# Altium schematic symbol library uw-madison-parts.SchLib: 28 symbols
Pins are listed as number, name and electrical type; pins without a type are passive.

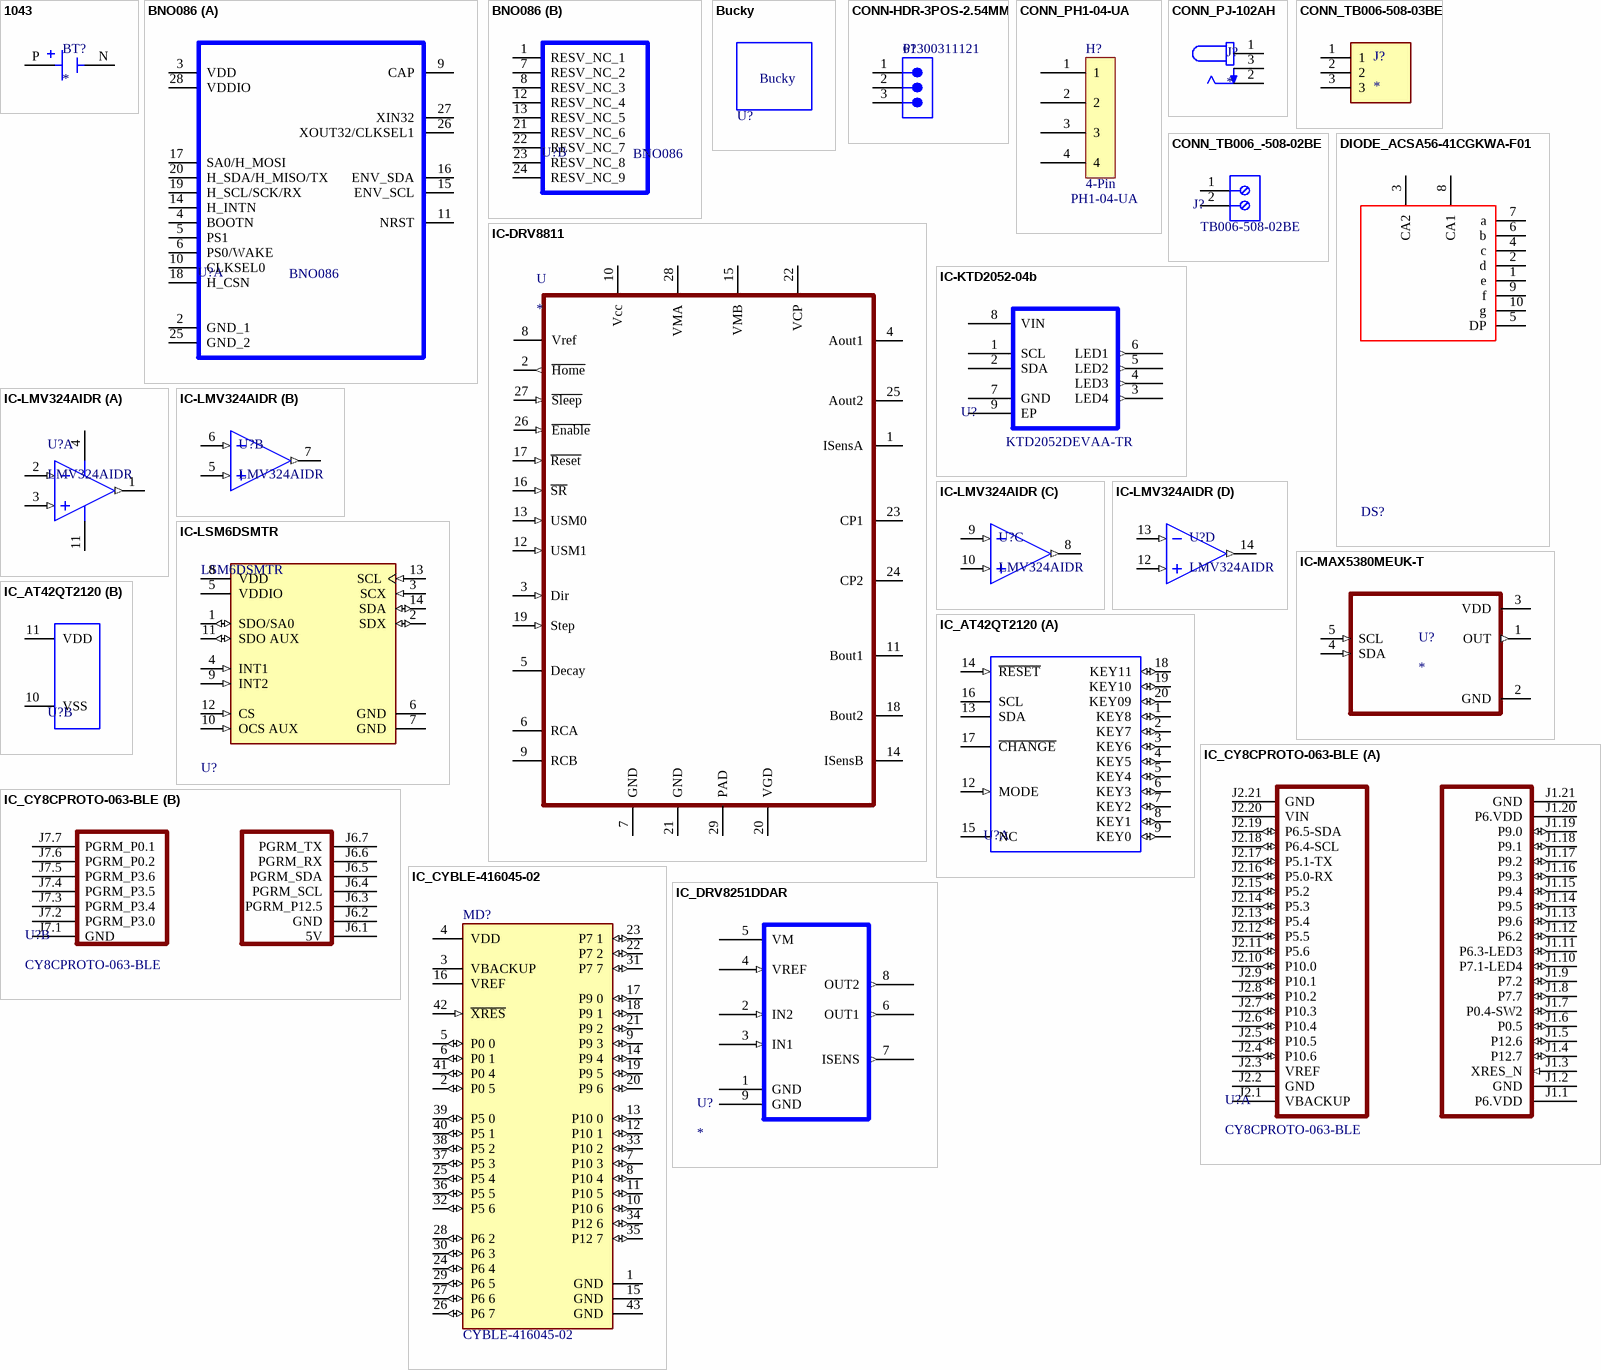
[diagram p0: symbols 1043 to IC_DRV8251DDAR]

## 1043
designator BT?
Manufacturer: Keystone Electronics; MP: 1043; Price: None; Availability: Unavailable; Value: *; Package: None; Supplier: Digikey; Supplier Part Number: 36-1043-ND; Manufacturer Part Number: 1043; RoHS: Yes; Category: Batteries and Accessories; Stock: 4625; Pricing: 1=3.38, 25=2.604, 100=2.328, 250=2.16176, 500=2.04398, 1000=1.9326, 2500=1.79464, 5000=1.69686 (USD); ComponentLink1URL: https://datasheet.ciiva.com/4/1043-4710.pdf?src-supplier=Digikey; ComponentLink1Description: https://datasheet.ciiva.com/4/1043-4710.pdf?src-supplier=Digikey; ComponentLink2URL: https://datasheet.ciiva.com/3353/1043-eng-tds-3353208.pdf?src-supplier=Distrelec; ComponentLink2Description: https://datasheet.ciiva.com/3353/1043-eng-tds-3353208.pdf?src-supplier=Distrelec; ComponentLink3URL: https://datasheet.ciiva.com/41803/1043-41803215.pdf?src-supplier=Digikey; ComponentLink3Description: https://datasheet.ciiva.com/41803/1043-41803215.pdf?src-supplier=Digikey; ComponentLink4URL: https://datasheet.ciiva.com/4642/1043-4642493.pdf?src-supplier=Mouser; ComponentLink4Description: https://datasheet.ciiva.com/4642/1043-4642493.pdf?src-supplier=Mouser
footprint BAT_1043
pins: N NEG, P POS

## BNO086
designator U?
Accelerometer, Gyroscope, Magnetometer, Temperature, 9 Axis Sensor IC, SPI Output; Manufacturer_Name: CEVA; Geometry.Height: 1.18mm; Mouser Part Number: 526-BNO086; Mouser Price/Stock: https://www.mouser.co.uk/ProductDetail/CEVA/BNO086?qs=ulEaXIWI0c%2FqTo1scjodAw%3D%3D; Manufacturer_Part_Number: BNO086; Datasheet Link: *
footprint BNO086
part A pins: 2 GND_1, 3 VDD, 4 BOOTN, 5 PS1, 6 PS0/WAKE, 9 CAP, 10 CLKSEL0, 11 NRST, 14 H_INTN, 15 ENV_SCL, 16 ENV_SDA, 17 SA0/H_MOSI, 18 H_CSN, 19 H_SCL/SCK/RX, 20 H_SDA/H_MISO/TX, 25 GND_2, 26 XOUT32/CLKSEL1, 27 XIN32, 28 VDDIO
part B pins: 1 RESV_NC_1, 7 RESV_NC_2, 8 RESV_NC_3, 12 RESV_NC_4, 13 RESV_NC_5, 21 RESV_NC_6, 22 RESV_NC_7, 23 RESV_NC_8, 24 RESV_NC_9

## Bucky
designator U?  (value not drawn)  (no BOM)
Bucky Badger Image; Manufacturer Part Number: UW Bucky
footprint Bucky

## CONN-HDR-3POS-2.54MM
designator P?, comment 61300311121
CONN HEADER VERT 3POS 2.54MM; NexarPartId: 32855521; Current Rating: 3A; Voltage Rating: 250V; Number of Positions: 3; Contact Resistance: 20mΩ; Connector Type: Male Pin; Gender: Male; REACH SVHC: Unknown; Packaging: Bulk; Contact Material: Copper; Pitch: 2.54mm; Min Operating Temperature: -40°C; Number of Rows: 1; Orientation: Vertical; RoHS: Compliant; Contact Plating: Gold; Max Operating Temperature: 105°C; Mount: Through Hole; Height: 8.94mm; Operating Supply Voltage: 250V; Number of Pins: 3; Contact Mating Length: 5.9944mm; Number of Contacts: 3; Color: Black; Lead Free: Lead Free; Lead Pitch: 2.54mm; Termination: Solder
footprint CONN-HDR-3POS (CONN HEADER VERT 3POS 2.54MM)
pins: 1, 2, 3

## CONN_PH1-04-UA
designator H?, comment 4-Pin  Manufacturer Part Number: PH1-04-UA
Conn Unshrouded Header HDR 4 POS 2.54mm Solder ST Thru-Hole Bag; Manufacturer: Adam Equipment; Number of Positions: 4; Value: 4P-Header; Supplier 1: Digi-Key; Supplier Part Number 1: 2057-PH1-04-UA-ND; RoHS: Yes; Category: Connectors; Stock 1: 21149; Pricing 1: 1=0.1, 10=0.067, 100=0.0498, 500=0.0412, 1000=0.03606, 5000=0.03091, 10000=0.03005 (USD); Termination: Through Hole; Pitch: 2.54mm; Lead Free: Lead Free; ComponentLink1URL: http://www.adam-tech.com/catalog/2010/page_292-295.pdf?src-supplier=Future+Electronics; ComponentLink1Description: http://www.adam-tech.com/catalog/2010/page_292-295.pdf?src-supplier=Future+Electronics; ComponentLink2URL: https://datasheet.octopart.com/PH1-04-UA-Adam-Tech-datasheet-12339966.pdf?src-supplier=Future+Electronics; ComponentLink2Description: https://datasheet.octopart.com/PH1-04-UA-Adam-Tech-datasheet-12339966.pdf?src-supplier=Future+Electronics; Supplier: Digikey; Supplier Part Number: 2057-PH1-04-UA-ND; Stock: 19829; Pricing: 1=0.1, 10=0.048, 100=0.0391, 500=0.03386, 1000=0.03184, 5000=0.0276, 10000=0.02595 (USD)
footprint PHOENIX4X0.2LGPINSRTL (4 Pin Right Angle Male Rect Phoenix)
footprint 4X1HDR (4X1 Header 0.1LS TH)
pins: 1 "Pin 1", 2 "Pin 2", 3 "Pin 3", 4 "Pin 4"

## CONN_PJ-102AH
designator J?
2.0 x 6.5 mm, 5.0 A, Horizontal, Through Hole, Tapered Pins, Dc Power Jack Connector; Manufacturer: CUI; MF: {'manufacturer': u'CUI Devices'}; MP: PJ-102AH; Number of Conductors: 2; Shielding: Unshielded; Package: None; Price: None; Value: *; Availability: Unavailable; Supplier: Digikey; Supplier Part Number: CP-102AH-ND; Manufacturer Part Number: PJ-102AH; RoHS: Yes; Category: Uncategorized; Stock: 76168; Pricing: 1=0.700000, 10=0.590000, 25=0.566000, 40=0.553750, 200=0.529750, 400=0.481600, 600=0.433430, 1000=0.385280, 2400=0.349160 (USD); Orientation: Horizontal; Packaging: Bulk; Termination: Through Hole; Connector Type: Jack; Diameter: 2.1mm; Lead Free: Lead Free; RoHS Compliant: Yes; ComponentLink1URL: http://www.mouser.com/ds/2/670/PJ-102AH-524179.pdf?src-supplier=Mouser; ComponentLink1Description: http://www.mouser.com/ds/2/670/PJ-102AH-524179.pdf?src-supplier=Mouser; ComponentLink2URL: https://www.cui.com/product/resource/digikeypdf/pj-102ah.pdf?src-supplier=Digikey; ComponentLink2Description: https://www.cui.com/product/resource/digikeypdf/pj-102ah.pdf?src-supplier=Digikey; ComponentLink3URL: http://www.cui.com/Product/Resource/FuturePDF/PJ-102AH.pdf?src-supplier=Future+Electronics; ComponentLink3Description: http://www.cui.com/Product/Resource/FuturePDF/PJ-102AH.pdf?src-supplier=Future+Electronics
footprint CUI_PJ-102AH
pins: 1, 2, 3

## CONN_TB006-508-03BE
designator J?
2~24 Poles, Screw Type, Horizontal, 5.08 Pitch, 26~14 (AWG), Terminal Block Connector; MF: CUI Devices; MP: TB006-508-03BE; Price: None; CUI_purchase_URL: https://www.cuidevices.com/product/interconnect/connectors/terminal-blocks/tb006-508-series?utm_source=snapeda.com&utm_medium=referral&utm_campaign=snapedaBOM; Purchase-URL: https://pricing.snapeda.com/search/part/TB006-508-03BE/?ref=eda; Value: *; Package: None; SnapEDA_Link: https://www.snapeda.com/parts/TB006-508-03BE/CUI+Devices/view-part/?ref=snap; Availability: In Stock; Check_prices: https://www.snapeda.com/parts/TB006-508-03BE/CUI+Devices/view-part/?ref=eda
footprint CUI_TB006-508-03BE
pins: 1, 2, 3

## CONN_TB006_-508-02BE
designator J?  Manufacturer Part Number: TB006-508-02BE  (hidden comment: *)
2~24 Poles, Screw Type, Horizontal, 5.08 Pitch, 26~14 (AWG), Terminal Block Connector; MF: CUI Devices; MP: TB006 -508-02BE; CUI_purchase_URL: https://www.cuidevices.com/product/interconnect/connectors/terminal-blocks/tb006-508-series?utm_source=snapeda.com&utm_medium=referral&utm_campaign=snapedaBOM; Value: *; Check_prices: https://www.snapeda.com/parts/TB006%20-508-02BE/CUI+Devices/view-part/?ref=eda; SnapEDA_Link: https://www.snapeda.com/parts/TB006%20-508-02BE/CUI+Devices/view-part/?ref=snap; Availability: In Stock; Package: None; Purchase-URL: https://pricing.snapeda.com/search/part/TB006 -508-02BE/?ref=eda; Price: None; Supplier: Digikey; Supplier Part Number: 102-6191-ND; Manufacturer: CUI Devices; RoHS: Yes; Category: Terminal Blocks; Stock: 47249; Pricing: 1=0.73, 10=0.402, 25=0.3, 50=0.2676, 100=0.2623, 250=0.23084, 500=0.20984, 1000=0.18886, 5000=0.14164 (USD)
footprint CUI_TB006 -508-02BE
pins: 1, 2

## DIODE_ACSA56-41CGKWA-F01
designator DS?, comment ACSA56-41CGKWA-F01  (value not drawn)
DISPLAY 7SEG 0.56" SGL GRN 10SMD; Manufacturer: Kingbright; Color: Green; Power Consumption: 75mW; Number of Characters: 1; Forward Current: 30mA; Forward Voltage: 2.1V; Wavelength: 570nm; Test Current: 20mA; Luminous Intensity: 25mcd; Display Type: Segment; Supplier: Digikey; Supplier Part Number: 754-1033-1-ND; Manufacturer Part Number: ACSA56-41CGKWA-F01; RoHS: Yes; Category: LEDs; Stock: 24017; Pricing: 1=3.02, 10=2.138, 100=1.7511 (USD); Case/Package: SMD/SMT; Min Operating Temperature: -40°C; Max Operating Temperature: 85°C; Package Quantity: 400; Max Power Dissipation: 75mW; Illumination Color: Green; Packaging: Cut Tape; Operating Supply Voltage: 2.1V; Series: -; RoHS Compliant: Yes; Lead Free: Lead Free; ComponentLink1URL: https://datasheet.ciiva.com/2103/acsa56-41cgkwa-f01-2103794.pdf?src-supplier=Digikey; ComponentLink1Description: https://datasheet.ciiva.com/2103/acsa56-41cgkwa-f01-2103794.pdf?src-supplier=Digikey; ComponentLink2URL: https://datasheet.ciiva.com/16287/acsa56-41cgkwa-f01-16287523.pdf?src-supplier=Future+Electronics; ComponentLink2Description: https://datasheet.ciiva.com/16287/acsa56-41cgkwa-f01-16287523.pdf?src-supplier=Future+Electronics; ComponentLink3URL: https://datasheet.ciiva.com/4421/acsa56-41cgkwa-f01-17964-4421697.pdf?src-supplier=Mouser; ComponentLink3Description: https://datasheet.ciiva.com/4421/acsa56-41cgkwa-f01-17964-4421697.pdf?src-supplier=Mouser; ComponentLink4URL: https://datasheet.ciiva.com/2103/acsa56-41cgkwa-f01-2103795.pdf?src-supplier=Digikey; ComponentLink4Description: https://datasheet.ciiva.com/2103/acsa56-41cgkwa-f01-2103795.pdf?src-supplier=Digikey; ComponentLink5URL: https://datasheet.ciiva.com/2103/acsa56-41cgkwa-f01-2103796.pdf?src-supplier=Digikey; ComponentLink5Description: https://datasheet.ciiva.com/2103/acsa56-41cgkwa-f01-2103796.pdf?src-supplier=Digikey
footprint ACSA56-41CGKWA-F01
pins: 1 e, 2 d, 3 CA2, 4 c, 5 DP, 6 b, 7 a, 8 CA1, 9 f, 10 g

## IC-DRV8811
designator U
DRV8811 1.9A Bipolar Stepper Mot; Manufacturer: Texas Instruments; Manufacturer Part Number: DRV8811PWP; Min Supply Voltage: 8V; Max Supply Voltage: 38V; Output Current: 2.5A; Quiescent Current: 8mA; Number of Outputs: 1; Output Voltage: 24V; Max Collector Current: 1.4A; Supplier: Digikey; Supplier Part Number: 296-25379-5-ND; RoHS: Yes; Category: Integrated Circuits (ICs); Stock 1: 6888; Pricing 1: 1=5.1, 10=4.577, 25=4.3268, 100=3.7499, 250=3.55764, 500=3.19224, 1000=2.69226, 2500=2.55764 (USD); Case/Package: HTSSOP; Pins: 28; Weight: 0.00418oz; Min Operating Temperature: -40°C; Max Operating Temperature: 85°C; Packaging: Rail/Tube; Package Quantity: 50; Max Output current: 1.9A; Series: -; Supply Current: 2.5A; Type: Integrated Circuit (IC); Motor Type: Stepper; Length: 9.8mm; Width: 4.5mm; Height: 1.05mm; Radiation Hardening: No; Lead Free: Lead Free; RoHS Compliant: Yes; Reach SVHC Compliant: No; ComponentLink1URL: https://datasheet.ciiva.com/15109/getdatasheetpartid-226283-15109439.pdf?src-supplier=Verical; ComponentLink1Description: https://datasheet.ciiva.com/15109/getdatasheetpartid-226283-15109439.pdf?src-supplier=Verical; ComponentLink2URL: https://datasheet.ciiva.com/1959/drv8811-1959294.pdf?src-supplier=Digikey; ComponentLink2Description: https://datasheet.ciiva.com/1959/drv8811-1959294.pdf?src-supplier=Digikey; ComponentLink3URL: https://datasheet.ciiva.com/1500/1787005-1500613.pdf?src-supplier=Element14; ComponentLink3Description: https://datasheet.ciiva.com/1500/1787005-1500613.pdf?src-supplier=Element14; ComponentLink4URL: https://datasheet.ciiva.com/1501/drv8811-1501538.pdf?src-supplier=Element14; ComponentLink4Description: https://datasheet.ciiva.com/1501/drv8811-1501538.pdf?src-supplier=Element14; ComponentLink5URL: https://datasheet.ciiva.com/1558/drv8811-1558191.pdf?src-supplier=Farnell; ComponentLink5Description: https://datasheet.ciiva.com/1558/drv8811-1558191.pdf?src-supplier=Farnell
footprint PWP0028C_M (SOP, 28-Leads, Body 9.8x4.5mm, Pitch 0.65mm, Thermal Pad 5.18x3.1mm, IPC Low Density)
pins: 1 ISensA, 2 ~{Home} (out), 3 Dir (in), 4 Aout1, 5 Decay, 6 RCA, 7 GND, 8 Vref, 9 RCB, 10 Vcc, 11 Bout1, 12 USM1 (in), 13 USM0 (in), 14 ISensB, 15 VMB, 16 ~{SR} (in), 17 ~{Reset} (in), 18 Bout2, 19 Step (in), 20 VGD, 21 GND, 22 VCP, 23 CP1, 24 CP2, 25 Aout2, 26 ~{Enable} (in), 27 ~{Sleep} (in), 28 VMA, 29 PAD

## IC-KTD2052-04b
designator U?  Manufacturer Part Number: KTD2052DEVAA-TR  (hidden comment: *)
12-CHANNEL RGB LED DRIVER; Manufacturer: Kinetic Technologies; Supplier: Digi-Key; RoHS: No; Category: Uncategorized; Stock 1: 3000; Pricing 1: 1=1.55, 10=1.382, 25=1.312, 100=1.0779, 250=1.00756, 500=0.89042, 1000=0.70296 (USD); Supplier Part Number: 2763-KTD2052DEVAA-TRCT-ND
footprint KTD2052-04b
pins: 1 SCL, 2 SDA, 3 LED4 (out), 4 LED3 (out), 5 LED2 (out), 6 LED1 (out), 7 GND (power), 8 VIN (power), 9 EP (power)

## IC-LMV324AIDR
designator U?, comment LMV324AIDR
IC OPAMP GP 4 CIRCUIT 14SOIC; Nominal Supply Current: 1mA; Gain Bandwidth Product: 10MHz; Input Bias Current: 1pA; Max Supply Voltage: 5.5V; Min Input Voltage: 2.5V; Voltage Gain: 110dB; Number of Circuits: 1; Slew Rate: 7V/µs; Input Offset Voltage (Vos): 250uV; Power Supply Rejection Ratio (PSRR): 74dB; Input Offset Voltage-Max: 500uV; Output Current per Channel: 30mA; Output Current: 22mA; Common Mode Rejection Ratio: 70dB; Max Frequency: 10kHz; Amplifier Type: GENERAL PURPOSE; Contact Plating: Tin; Number of Pins: 5; Operating Supply Current: 1mA; RoHS Compliant: Yes; Mount: Surface Mount; Number of Amplifiers: 1; Case/Package: SOT-23; Min Supply Voltage: 2.5V; Radiation Hardening: No; Height: 0.051inch; Max Input Voltage: 5.5V; Min Operating Temperature: -40°C; Max Operating Temperature: 125°C; Number of Channels: 1; Package Quantity: 3000; Unity Gain Bandwidth Product: 10MHz; Length: 0.122inch; Width: 0.071inch; Number of Elements: 1; Bandwidth: 10MHz; Lead Free: Lead Free; Packaging: Tape and Reel; Technology: CMOS; Supply Current: 1mA; REACH SVHC: No SVHC
footprint SOIC127P600X175-14N
part A pins: 1 OUTA (out), 2 -INA (in), 3 INA+ (in), 4 V+ (power), 11 V- (power)
part B pins: 5 INB+ (in), 6 -INB (in), 7 OUTB (out)
part C pins: 8 OUTC (out), 9 -INC (in), 10 INC+ (in)
part D pins: 12 IND+ (in), 13 -IND (in), 14 OUTD (out)

## IC-LSM6DSMTR
designator U?, comment LSM6DSMTR
IMU ACCEL/GYRO I2C/SPI 14LGA; Manufacturer: STMicroelectronics; Operating Supply Current: 0.29-0.65mA; Gyro Range: 125/250/500/1000/2000°/s; Sensor Output: I2C,SPI; Accel Range: 2/4/8/16g; Min Supply Voltage: 1.62V; Resolution: 16bits; Sensor Type: Temperature,Accelerometer,Gyroscope; Max Supply Voltage: 3.6V; Manufacturer Part Number: LSM6DSMTR; Octopart: https://octopart.com/lsm6dsmtr-stmicroelectronics-66358194; Height: 0.86mm; Category: IC; Lead Free: Yes; Temperature: -40°C to +85°C; Temperature Range Low: -40°C; ComponentLink2Description: Datasheet; ComponentLink2URL: https://www.st.com/resource/en/datasheet/lsm6dsm.pdf; Digikey Description: IMU ACCEL/GYRO I2C/SPI 14LGA; Footprint Url: https://www.st.com/content/ccc/resource/technical/document/technical_note/73/17/9c/16/dd/96/4a/01/CD00134799.pdf/files/CD00134799.pdf/jcr:content/translations/en.CD00134799.pdf; Device Class L1: Sensors; Device Class L2: Motion Sensors; Temperature Range High: +85°C; Mouser Description: LSM6DSM Series 3.6 V I2C/SPI 3D Accelerometer and 3D Gyroscope - LGA-14; Device Class L3: Inertial Measurement Units (IMUs); Automotive: No; Package: LGA-14L-DM00249496; RoHS: TRUE
footprint LSM6DSMTR
pins: 1 SDO/SA0 (io), 2 SDX (io), 3 SCX (in), 4 INT1 (in), 5 VDDIO (power), 6 GND (power), 7 GND (power), 8 VDD (power), 9 INT2 (in), 10 OCS AUX (in), 11 SDO AUX (io), 12 CS (in), 13 SCL (in), 14 SDA (io)

## IC-MAX5380MEUK-T
designator U?
Low-Cost, Low-Power, 8-Bit DACs with 2-Wire Serial Interface in SOT23; Manufacturer: Maxim; Manufacturer Part Number: MAX5380MEUK+T; MP: MAX5380MEUK-T; Resolution: 8b; Integral Nonlinearity (INL): 1LSB; Output Type: Voltage; Max Power Dissipation: 571mW; Interface: I2C,Serial; Max Supply Voltage: 3.6V; Min Supply Voltage: 2.7V; Settling Time: 20us; Number of Bits: 8; Number of Converters: 1; Differential Output: No; Supply Type: Single; Supply Current: 150uA; Package: None; Price: None; Value: *; Availability: Unavailable; Supplier: Digikey; Supplier Part Number: 175-MAX5380MEUK+TCT-ND; RoHS: Yes; Category: Digital to Analog Converters (DACs); Stock: 2360; Pricing: 1=2.65, 10=2.382, 25=2.2472, 100=1.9147, 250=1.7978, 500=1.57308, 1000=1.3034 (USD); Mounting Technology: Surface Mount; Case/Package: SOT-23-5; Pins: 5; Min Operating Temperature: -40°C; Max Operating Temperature: 85°C; Packaging: Tape and Reel; Package Quantity: 1; Number of D/A Converters: 1; Series: -; RoHS Compliant: Yes; ComponentLink1URL: https://datasheet.ciiva.com/1366/max5380-max5382-1366001.pdf?src-supplier=Digikey; ComponentLink1Description: https://datasheet.ciiva.com/1366/max5380-max5382-1366001.pdf?src-supplier=Digikey; ComponentLink2URL: https://datasheet.ciiva.com/1366/max5380-max5382-1366002.pdf?src-supplier=Digikey; ComponentLink2Description: https://datasheet.ciiva.com/1366/max5380-max5382-1366002.pdf?src-supplier=Digikey; ComponentLink3URL: https://datasheet.ciiva.com/1366/max5380-max5382-1366003.pdf?src-supplier=Digikey; ComponentLink3Description: https://datasheet.ciiva.com/1366/max5380-max5382-1366003.pdf?src-supplier=Digikey
footprint SOT23-5-MAX5380MEUK+T
pins: 1 OUT (out), 2 GND (power), 3 VDD (power), 4 SDA (in), 5 SCL (in)

## IC_AT42QT2120
designator U?  (value not drawn)
IC TOUCH SENSOR 12CH 20SOIC; Manufacturer 1: Microchip / Atmel; Manufacturer Part Number 1: AT42QT2120-SU; Interface: I2C; ComponentLink1URL: http://www.atmel.com/images/doc9634.pdf; ComponentLink1Description: http://www.atmel.com/images/doc9634.pdf; Supplier 1: Digi-Key; Supplier Part Number 1: AT42QT2120-SU-ND; RoHS: Yes; Category: Uncategorized; Stock 1: 417; Pricing 1: 1=1.31000, 25=1.21000, 100=1.09200 (USD); Case/Package: SOIC; Min Operating Temperature: -40°C; Max Operating Temperature: 85°C; Packaging: Rail/Tube; Package Quantity: 37; Series: QTouch™; RoHS Compliant: Yes; ComponentLink2URL: https://datasheet.ciiva.com/6483/doc9634-6483479.pdf?src-supplier=Digi-Key; ComponentLink2Description: https://datasheet.ciiva.com/6483/doc9634-6483479.pdf?src-supplier=Digi-Key; ComponentLink3URL: https://datasheet.ciiva.com/12177/doc9634-271534-12177086.pdf?src-supplier=Mouser; ComponentLink3Description: https://datasheet.ciiva.com/12177/doc9634-271534-12177086.pdf?src-supplier=Mouser
footprint SOIC_AT42QT2120 (SOIC, 20-Leads, Body 12.8x7.5mm, Pitch 1.27mm, IPC Low Density)
part A pins: 1 KEY8 (io), 2 KEY7 (io), 3 KEY6 (io), 4 KEY5 (io), 5 KEY4 (io), 6 KEY3 (io), 7 KEY2 (io), 8 KEY1 (io), 9 KEY0 (io), 12 MODE (in), 13 SDA (oc), 14 ~{RESET} (in), 15 NC, 16 SCL (oc), 17 ~{CHANGE} (oc), 18 KEY11 (io), 19 KEY10 (io), 20 KEY09 (io)
part B pins: 10 VSS (power), 11 VDD (power)

## IC_CY8CPROTO-063-BLE
designator U?, comment CY8CPROTO-063-BLE
footprint CY8CPROTO-063-BLE
part A pins: J1.1 P6.VDD, J1.2 GND (power), J1.3 XRES_N (in), J1.4 P12.7 (io), J1.5 P12.6 (io), J1.6 P0.5 (io), J1.7 P0.4-SW2 (io), J1.8 P7.7 (io), J1.9 P7.2 (io), J1.10 P7.1-LED4 (io), J1.11 P6.3-LED3 (io), J1.12 P6.2 (io), J1.13 P9.6 (io), J1.14 P9.5 (io), J1.15 P9.4 (io), J1.16 P9.3 (io), J1.17 P9.2 (io), J1.18 P9.1 (io), J1.19 P9.0 (io), J1.20 P6.VDD, J1.21 GND (power), J2.1 VBACKUP, J2.2 GND (power), J2.3 VREF (power), J2.4 P10.6 (io), J2.5 P10.5 (io), J2.6 P10.4 (io), J2.7 P10.3 (io), J2.8 P10.2 (io), J2.9 P10.1 (io), J2.10 P10.0 (io), J2.11 P5.6 (io), J2.12 P5.5 (io), J2.13 P5.4 (io), J2.14 P5.3 (io), J2.15 P5.2 (io), J2.16 P5.0-RX (io), J2.17 P5.1-TX (io), J2.18 P6.4-SCL (io), J2.19 P6.5-SDA (io), J2.20 VIN (power), J2.21 GND (power)
part B pins: J6.1 5V, J6.2 GND, J6.3 PGRM_P12.5, J6.4 PGRM_SCL, J6.5 PGRM_SDA, J6.6 PGRM_RX, J6.7 PGRM_TX, J7.1 GND, J7.2 PGRM_P3.0, J7.3 PGRM_P3.4, J7.4 PGRM_P3.5, J7.5 PGRM_P3.6, J7.6 PGRM_P0.2, J7.7 PGRM_P0.1

## IC_CYBLE-416045-02
designator MD?, comment CYBLE-416045-02  (no BOM)
RF TXRX MOD BLUETOOTH TRACE ANT; Manufacturer: Cypress Semiconductor; Manufacturer 1: Cypress; Number Of Gpio: 36; Number Of Adc Channels: 1; Max Supply Voltage: 3.6V; Min Supply Voltage: 1.71V; Data Rate: 2Mbits/s; Receiving Current: 6.7mA; Max Frequency: 2.5GHz; Bandwidth: 100MHz; Transmitting Current: 5.7mA; Interface: I2C,SPI,UART,I2S,Other; Octopart: https://octopart.com/cyble-416045-02-cypress+semiconductor-96386825; Lead Free: Yes; RoHS: TRUE; Device Class L3: Transceivers; Category: UNK; Package: 0; Device Class L2: RF Semiconductors and Devices; Automotive: No; ComponentLink2URL: https://www.cypress.com/file/428336/download; Temperature Range Low: -40°C; Height: 2mm; Device Class L1: Integrated Circuits (ICs); Manufacturer Part Number: CYBLE-416045-02; ComponentLink2Description: Datasheet; Digikey Description: RF TXRX MOD BLUETOOTH TRACE ANT; Temperature: -40°C to +85°C; Temperature Range High: +85°C; Supplier: Digi-Key; Supplier Part Number: 428-4622-1-ND; Manufacturer Part Number 1: CYBLE-416045-02; Stock 1: 3441; Pricing 1: 1=16.24000, 10=14.69300, 25=13.53280, 100=12.37280, 250=11.59952 (USD); RoHS Compliant: Yes
footprint IC-CYBLE-416045-02
pins: 1 GND (power), 2 P0 5 (io), 3 VBACKUP (power), 4 VDD (power), 5 P0 0 (io), 6 P0 1 (io), 7 P10 3 (io), 8 P10 4 (io), 9 P9 3 (io), 10 P10 6 (io), 11 P10 5 (io), 12 P10 1 (io), 13 P10 0 (io), 14 P9 4 (io), 15 GND (power), 16 VREF (power), 17 P9 0 (io), 18 P9 1 (io), 19 P9 5 (io), 20 P9 6 (io), 21 P9 2 (io), 22 P7 2 (io), 23 P7 1 (io), 24 P6 4 (io), 25 P5 4 (io), 26 P6 7 (io), 27 P6 6 (io), 28 P6 2 (io), 29 P6 5 (io), 30 P6 3 (io), 31 P7 7 (io), 32 P5 6 (io), 33 P10 2 (io), 34 P12 6 (io), 35 P12 7 (io), 36 P5 5 (io), 37 P5 3 (io), 38 P5 2 (io), 39 P5 0 (io), 40 P5 1 (io), 41 P0 4 (io), 42 ~{XRES} (in), 43 GND (power)

## IC_DRV8251DDAR
designator U?
48-V, 3.5-A H bridge motor driver with current regulation and latched OCP 8-SO PowerPAD -40 to 150; Manufacturer: Texas Instruments; Manufacturer Part Number: DRV8251DDAR; Supplier: Digi-Key; Supplier Part Number: 296-DRV8251DDARCT-ND; RoHS: No; Category: Integrated Circuits (ICs); Stock: 4730; Pricing: 1=1.66, 10=1.495, 25=1.4108, 100=1.202, 250=1.12868, 500=0.9876, 1000=0.81829 (USD)
footprint SOIC_8_PP (SOIC, 8-Leads, Body 4.90x3.90mm, Pitch 1.27mm, Thermal Pad 2.29x2.29mm, IPC Medium Density)
pins: 1 GND (power), 2 IN2 (in), 3 IN1 (in), 4 VREF (in), 5 VM (power), 6 OUT1 (out), 7 ISENS (out), 8 OUT2 (out), 9 GND (power)

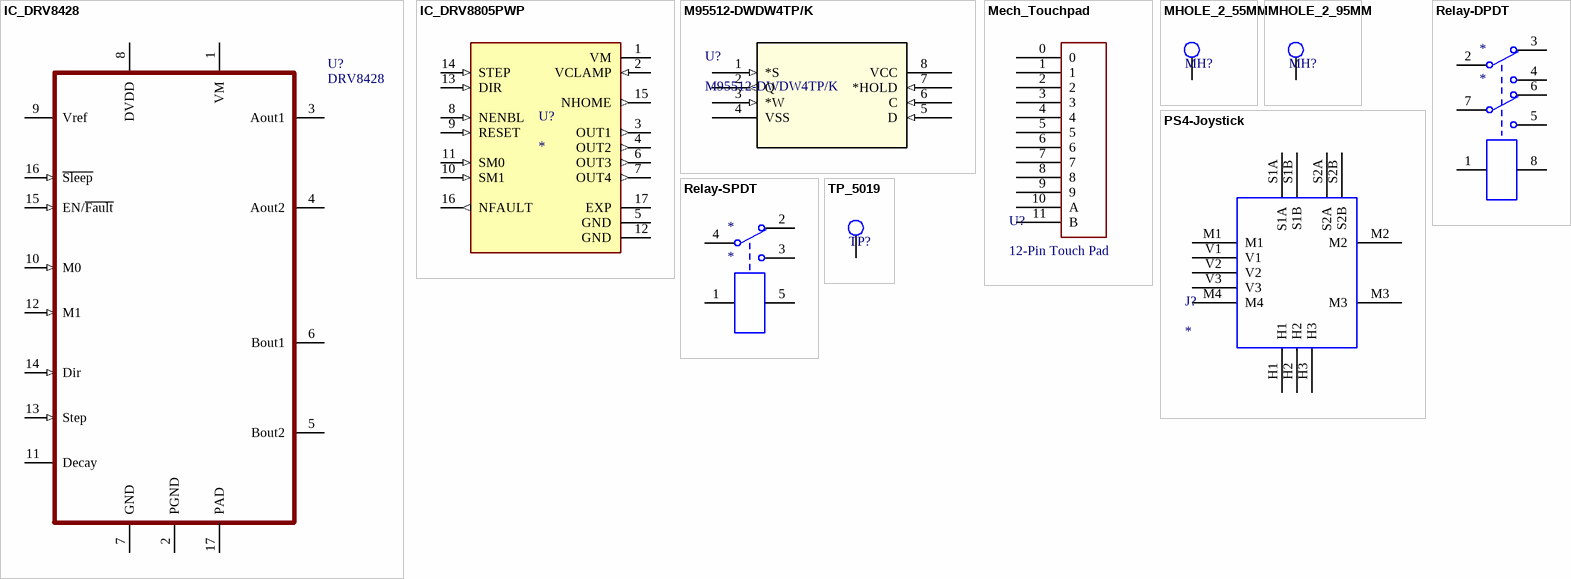
[diagram p1: symbols IC_DRV8428 to TP_5019]

## IC_DRV8428
designator U?, comment DRV8428
BIPOLAR STEPPER MOTOR DR, 35V, 1A
footprint IC-DRV8428 (TSOP, 16-Leads, Body 5.00x4.40mm, Pitch 0.65mm, Thermal Pad 3.55x2.46mm, IPC Low Density)
pins: 1 VM, 2 PGND, 3 Aout1, 4 Aout2, 5 Bout2, 6 Bout1, 7 GND, 8 DVDD, 9 Vref, 10 M0 (in), 11 Decay, 12 M1 (in), 13 Step (in), 14 Dir (in), 15 EN/~{Fault} (in), 16 ~{Sleep} (in), 17 PAD

## IC_DRV8805PWP
designator U?
60-V, 2.3-A, quad low-side motor driver with step/dir control 16-HTSSOP -40 to 125; MF: Texas Instruments; MP: DRV8805PWP; SnapEDA_Link: https://www.snapeda.com/parts/DRV8805PWP/Texas%20Instruments/view-part/1200314/?ref=snap; Price: None; Check_prices: https://www.snapeda.com/parts/DRV8805PWP/Texas%20Instruments/view-part/1200314/?ref=eda; Value: *; Package: HTSSOP-16 Texas Instruments; Availability: In Stock; Purchase-URL: https://pricing.snapeda.com/search/part/DRV8805PWP/?ref=eda
footprint DRV8805PWP
pins: 1 VM (power), 2 VCLAMP (in), 3 OUT1 (out), 4 OUT2 (out), 5 GND (power), 6 OUT3 (out), 7 OUT4 (out), 8 NENBL (in), 9 RESET (in), 10 SM1 (in), 11 SM0 (in), 12 GND (power), 13 DIR (in), 14 STEP (in), 15 NHOME (out), 16 NFAULT (out), 17 EXP (power)

## M95512-DWDW4TP/K
designator U?
EEPROM Serial-SPI 512K-bit 64K x 8 3.3V/5V Automotive 8-Pin TSSOP T/R; Mfr_Name: STMicroelectronics; Interface: SPI,Serial; Access Time: 25ns; Density: 512Kb; Frequency: 10MHz; Min Supply Voltage: 2.5V; Max Supply Voltage: 5.5V; Max Frequency: 16MHz; Nominal Supply Current: 4mA; Copyright: Copyright (C) 2022 Ultra Librarian. All rights reserved.; Manufacturer_Part_Number: M95512-DWDW4TP/K; RefDes: RefDes; Type: DEV; Supplier 1: Digi-Key; Supplier Part Number 1: 497-14459-1-ND; Manufacturer 1: STMicroelectronics; Manufacturer Part Number 1: M95512-DWDW4TP/K; RoHS: Yes; Category: EEPROM; Stock 1: 11469; Pricing 1: 1=2.30000, 10=2.07100, 25=2.03920, 50=2.03400, 100=1.81740, 250=1.76084 (USD); Mount: Surface Mount; Case/Package: TSSOP; Number of Pins: 8; Min Operating Temperature: -40°C; Max Operating Temperature: 145°C; Packaging: Tape and Reel; Memory Type: EEPROM; Radiation Hardening: No; RoHS Compliant: Yes; ComponentLink1URL: https://datasheet.ciiva.com/29614/dm00046608-29614432.pdf?src-supplier=Digi-Key; ComponentLink1Description: https://datasheet.ciiva.com/29614/dm00046608-29614432.pdf?src-supplier=Digi-Key; ComponentLink2URL: https://datasheet.ciiva.com/48501/dm00046608-48501612.pdf?src-supplier=Avnet; ComponentLink2Description: https://datasheet.ciiva.com/48501/dm00046608-48501612.pdf?src-supplier=Avnet
footprint TSSOP8_169MILS_DW_STM-M
pins: 1 *S (in), 2 Q (out), 3 *W (in), 4 VSS, 5 D (in), 6 C (in), 7 *HOLD (in), 8 VCC (power)

## Mech_Touchpad
designator U?, comment 12-Pin Touch Pad
Mechanical 12-Pin Touchpad for CapTouch
footprint TOUCHPAD-12PIN (4X3 numeric touch pad)
pins: 0, 1, 2, 3, 4, 5, 6, 7, 8, 9, 10 A, 11 B

## MHOLE_2_55MM
designator MH?  (value not drawn)
Mounting Holde; Manufacturer Part Number: UW MTHOLE
footprint MHOLE_2_55MM (2.55MM Mounting Hole)
pins: 1

## MHOLE_2_95MM
designator MH?  (value not drawn)
Mounting Holde; Manufacturer Part Number: UW MTHOLE
footprint MHOLE_2_95MM
pins: 1

## PS4-Joystick
designator J?
footprint PS4-Joystick
pins: H1, H2, H3, M1, M2, M3, M4, S1A, S1B, S2A, S2B, V1, V2, V3

## Relay-DPDT
designator *
Relay Ul Approved Gen Purpose Dp; Manufacturer: CIT Relay & Switch; Manufacturer Part Number: J104B2C3VDC.20S; Supplier: Digikey; Supplier Part Number 1: 2449-J104B2C3VDC.20S-ND; RoHS: No; Category: Power Relays; Stock 1: 4151; Pricing 1: 1=1.6, 10=1.5, 25=1.3332, 50=1.2666, 100=1.1999, 250=1.06656, 500=0.9999, 1000=0.93324, 5000=0.89991 (USD)
footprint CIT-J104
pins: 1, 2, 3, 4, 5, 6, 7, 8

## Relay-SPDT
designator *
Relay Ul Approved Gen Purpose Sp; Manufacturer: CIT Relay & Switch; Manufacturer Part Number: J105D1CS3VDC.45; Supplier: Digikey; Supplier Part Number 1: 2449-J105D1CS3VDC.45-ND; RoHS: No; Category: Power Relays; Stock 1: 3026; Pricing 1: 1=1.48, 10=1.386, 25=1.232, 40=1.1705, 100=1.109, 300=0.98577, 500=0.92416, 1000=0.86254, 4900=0.83173 (USD)
footprint CIT-J105D (Footprint not found)
pins: 1, 2, 3, 4, 5

## TP_5019
designator TP?  (value not drawn)
Test Point, Mini, SMT, Phos Bronze/Silver, 1000pc Tape & Reel | Keystone Electronics 5019; Manufacturer Part Number: 5019; Plating: Silver; Body Material: Bronze; Number of Contacts: 1NUMBER; Supplier 1: Digikey; Supplier Part Number 1: 36-5019CT-ND; Manufacturer: Keystone Electronics; RoHS: Yes; Category: Terminals; Stock: 282853; Pricing: 1=0.37, 25=0.2496, 100=0.2117, 250=0.1902, 500=0.1756, 1000=0.16229, 2000=0.15019, 3000=0.14362, 5000=0.13585, 7000=0.13102, 10000=0.12613, 25000=0.1211 (USD); Mounting Technology: Surface Mount,PCB; Pins: 1; Contact Plating: Silver; Contact Material: Bronze; Material: Bronze; Packaging: Tape and Reel; Package Quantity: 1; Termination: SMD/SMT; Series: 5019; Height: 0.09inch; Reach SVHC Compliant: No; RoHS Compliant: Yes; Lead Free: Lead Free; ComponentLink1URL: https://datasheet.ciiva.com/14848/m60-2p61-14848437.pdf?src-supplier=Digikey; ComponentLink1Description: https://datasheet.ciiva.com/14848/m60-2p61-14848437.pdf?src-supplier=Digikey; ComponentLink2URL: https://datasheet.ciiva.com/14848/m60-2p61-14848438.pdf?src-supplier=Digikey; ComponentLink2Description: https://datasheet.ciiva.com/14848/m60-2p61-14848438.pdf?src-supplier=Digikey; ComponentLink3URL: https://datasheet.ciiva.com/14848/m60-2p61-14848439.pdf?src-supplier=Digikey; ComponentLink3Description: https://datasheet.ciiva.com/14848/m60-2p61-14848439.pdf?src-supplier=Digikey; ComponentLink4URL: https://datasheet.ciiva.com/16885/70182998-16885945.pdf?src-supplier=Allied+Electronics; ComponentLink4Description: https://datasheet.ciiva.com/16885/70182998-16885945.pdf?src-supplier=Allied+Electronics; ComponentLink5URL: https://datasheet.ciiva.com/16318/m60-2p61-16318395.pdf?src-supplier=Future+Electronics; ComponentLink5Description: https://datasheet.ciiva.com/16318/m60-2p61-16318395.pdf?src-supplier=Future+Electronics
footprint FP-5019-MFG
pins: 1